# Altium schematic symbol library Connector.SchLib: 380 symbols (part 2 of 2)
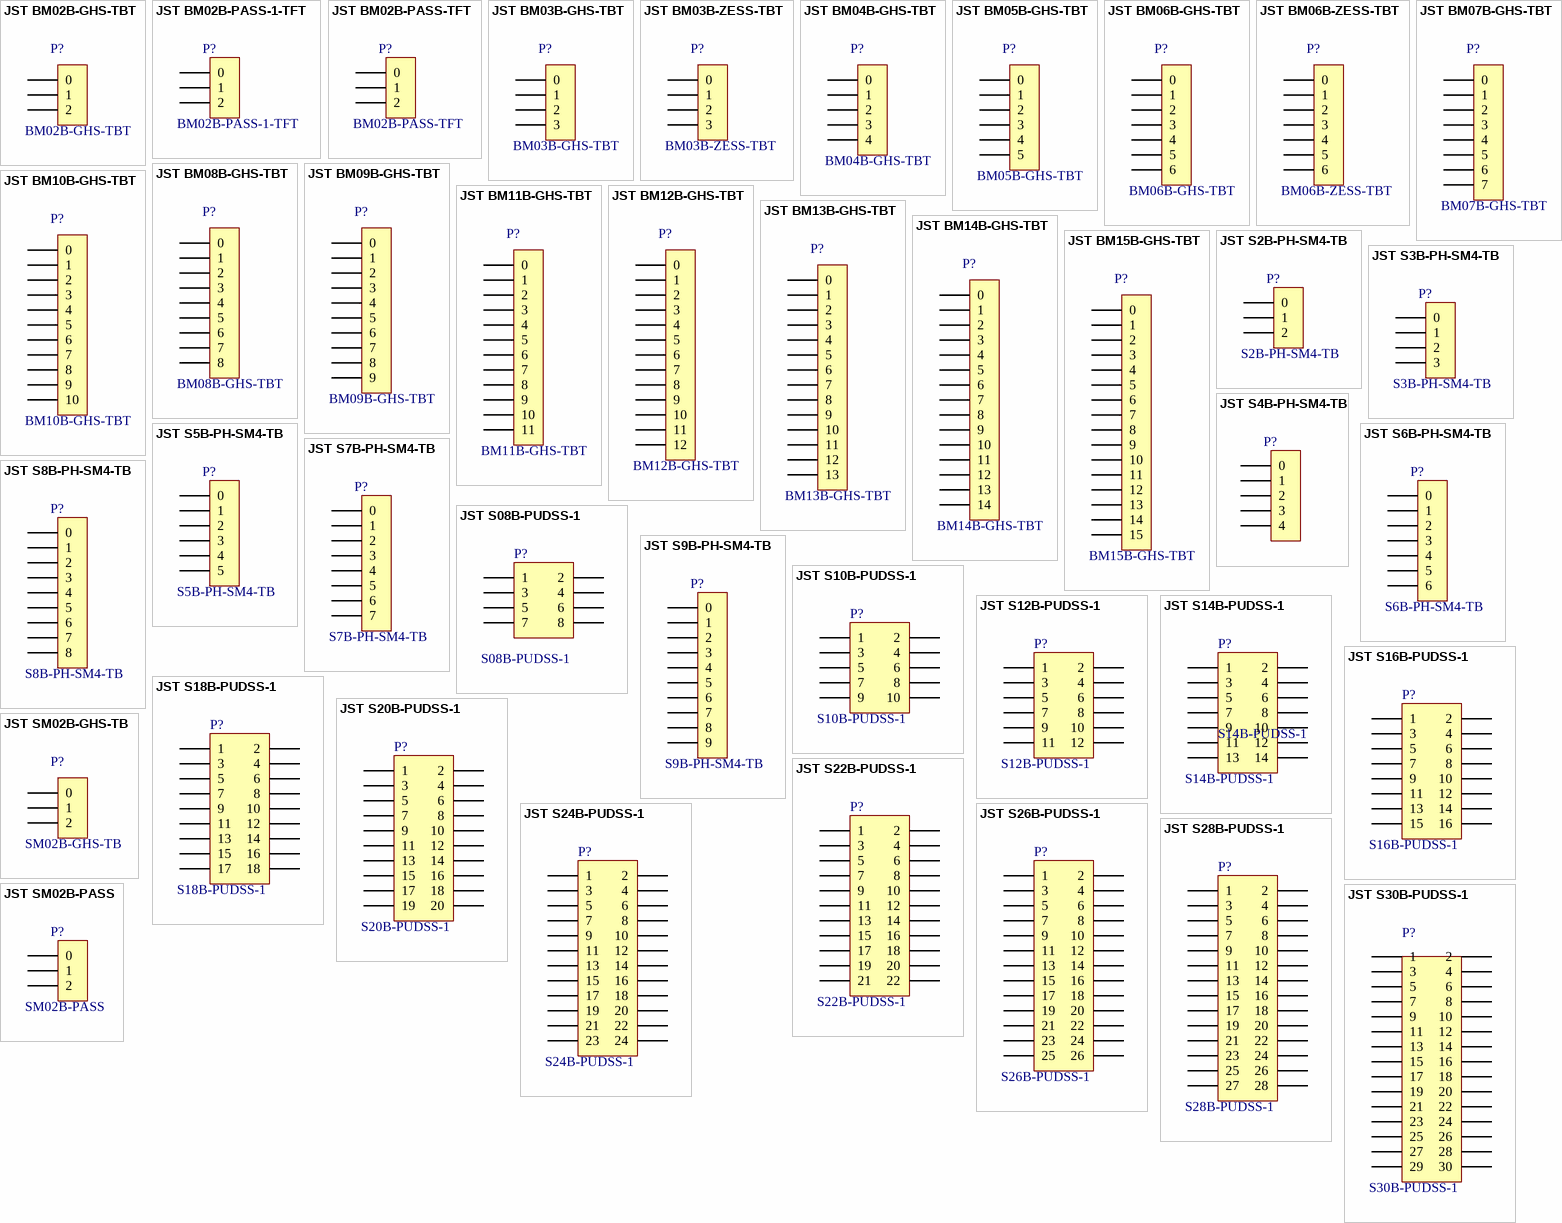
[diagram p10: symbols JST BM02B-GHS-TBT to JST SM02B-PASS]

## JST BM14B-GHS-TBT
designator P?, comment BM14B-GHS-TBT
Manufacture: BM14B-GHS-TBT; Sch Name: BM14B-GHS-TBT
footprint JST BM14B-GHS-TBT
pins: 0 (power), 1 (power), 2 (power), 3 (power), 4 (power), 5 (power), 6 (power), 7 (power), 8 (power), 9 (power), 10 (power), 11 (power), 12 (power), 13 (power), 14 (power)

## JST BM15B-GHS-TBT
designator P?, comment BM15B-GHS-TBT
Manufacture: BM15B-GHS-TBT; Sch Name: BM15B-GHS-TBT
footprint JST BM15B-GHS-TBT
pins: 0 (power), 1 (power), 2 (power), 3 (power), 4 (power), 5 (power), 6 (power), 7 (power), 8 (power), 9 (power), 10 (power), 11 (power), 12 (power), 13 (power), 14 (power), 15 (power)

## JST S2B-PH-SM4-TB
designator P?, comment S2B-PH-SM4-TB
Manufacture: S2B-PH-SM4-TB; Sch Name: S2B-PH-SM4-TB
footprint JST S2B-PH-SM4-TB
pins: 0 (power), 1 (power), 2 (power)

## JST S3B-PH-SM4-TB
designator P?, comment S3B-PH-SM4-TB
Manufacture: S3B-PH-SM4-TB; Sch Name: S3B-PH-SM4-TB
footprint JST S3B-PH-SM4-TB
pins: 0 (power), 1 (power), 2 (power), 3 (power)

## JST S4B-PH-SM4-TB
designator P?, comment S4B-PH-SM4-TB  (value not drawn)
Manufacture: S4B-PH-SM4-TB; Sch Name: S4B-PH-SM4-TB
footprint JST S4B-PH-SM4-TB
pins: 0 (power), 1 (power), 2 (power), 3 (power), 4 (power)

## JST S5B-PH-SM4-TB
designator P?, comment S5B-PH-SM4-TB
Manufacture: S5B-PH-SM4-TB; Sch Name: S5B-PH-SM4-TB
footprint JST S5B-PH-SM4-TB
pins: 0 (power), 1 (power), 2 (power), 3 (power), 4 (power), 5 (power)

## JST S6B-PH-SM4-TB
designator P?, comment S6B-PH-SM4-TB
Manufacture: S6B-PH-SM4-TB; Sch Name: S6B-PH-SM4-TB
footprint JST S6B-PH-SM4-TB
pins: 0 (power), 1 (power), 2 (power), 3 (power), 4 (power), 5 (power), 6 (power)

## JST S7B-PH-SM4-TB
designator P?, comment S7B-PH-SM4-TB
Manufacture: S7B-PH-SM4-TB; Sch Name: S7B-PH-SM4-TB
footprint JST S7B-PH-SM4-TB
pins: 0 (power), 1 (power), 2 (power), 3 (power), 4 (power), 5 (power), 6 (power), 7 (power)

## JST S8B-PH-SM4-TB
designator P?, comment S8B-PH-SM4-TB
Manufacture: S8B-PH-SM4-TB; Sch Name: S8B-PH-SM4-TB
footprint JST S8B-PH-SM4-TB
pins: 0 (power), 1 (power), 2 (power), 3 (power), 4 (power), 5 (power), 6 (power), 7 (power), 8 (power)

## JST S08B-PUDSS-1
designator P?, comment S08B-PUDSS-1
Manufacture: S08B-PUDSS-1; Sch Name: S08B-PUDSS-1
footprint JST S08B-PUDSS-1
signal-integrity model Connector
pins: 1, 2, 3, 4, 5, 6, 7, 8

## JST S9B-PH-SM4-TB
designator P?, comment S9B-PH-SM4-TB
Manufacture: S9B-PH-SM4-TB; Sch Name: S9B-PH-SM4-TB
footprint JST S9B-PH-SM4-TB
pins: 0 (power), 1 (power), 2 (power), 3 (power), 4 (power), 5 (power), 6 (power), 7 (power), 8 (power), 9 (power)

## JST S10B-PUDSS-1
designator P?, comment S10B-PUDSS-1
Manufacture: S10B-PUDSS-1; Sch Name: S10B-PUDSS-1
footprint JST S10B-PUDSS-1
signal-integrity model Connector
pins: 1, 2, 3, 4, 5, 6, 7, 8, 9, 10

## JST S12B-PUDSS-1
designator P?, comment S12B-PUDSS-1
Manufacture: S12B-PUDSS-1; Sch Name: S12B-PUDSS-1
footprint JST S12B-PUDSS-1
signal-integrity model Connector
pins: 1, 2, 3, 4, 5, 6, 7, 8, 9, 10, 11, 12

## JST S14B-PUDSS-1
designator P?, comment S14B-PUDSS-1
Manufacture: S14B-PUDSS-1; Sch Name: S14B-PUDSS-1
footprint JST S14B-PUDSS-1
signal-integrity model Connector
pins: 1, 2, 3, 4, 5, 6, 7, 8, 9, 10, 11, 12, 13, 14

## JST S16B-PUDSS-1
designator P?, comment S16B-PUDSS-1
Manufacture: S16B-PUDSS-1; Sch Name: S16B-PUDSS-1
footprint JST S16B-PUDSS-1
signal-integrity model Connector
pins: 1, 2, 3, 4, 5, 6, 7, 8, 9, 10, 11, 12, 13, 14, 15, 16

## JST S18B-PUDSS-1
designator P?, comment S18B-PUDSS-1
Manufacture: S18B-PUDSS-1; Sch Name: S18B-PUDSS-1
footprint JST S18B-PUDSS-1
signal-integrity model Connector
pins: 1, 2, 3, 4, 5, 6, 7, 8, 9, 10, 11, 12, 13, 14, 15, 16, 17, 18

## JST S20B-PUDSS-1
designator P?, comment S20B-PUDSS-1
Manufacture: S20B-PUDSS-1; Sch Name: S20B-PUDSS-1
footprint JST S20B-PUDSS-1
signal-integrity model Connector
pins: 1, 2, 3, 4, 5, 6, 7, 8, 9, 10, 11, 12, 13, 14, 15, 16, 17, 18, 19, 20

## JST S22B-PUDSS-1
designator P?, comment S22B-PUDSS-1
Manufacture: S22B-PUDSS-1; Sch Name: S22B-PUDSS-1
footprint JST S22B-PUDSS-1
signal-integrity model Connector
pins: 1, 2, 3, 4, 5, 6, 7, 8, 9, 10, 11, 12, 13, 14, 15, 16, 17, 18, 19, 20, 21, 22

## JST S24B-PUDSS-1
designator P?, comment S24B-PUDSS-1
Manufacture: S24B-PUDSS-1; Sch Name: S24B-PUDSS-1
footprint JST S24B-PUDSS-1
signal-integrity model Connector
pins: 1, 2, 3, 4, 5, 6, 7, 8, 9, 10, 11, 12, 13, 14, 15, 16, 17, 18, 19, 20, 21, 22, 23, 24

## JST S26B-PUDSS-1
designator P?, comment S26B-PUDSS-1
Manufacture: S26B-PUDSS-1; Sch Name: S26B-PUDSS-1
footprint JST S26B-PUDSS-1
signal-integrity model Connector
pins: 1, 2, 3, 4, 5, 6, 7, 8, 9, 10, 11, 12, 13, 14, 15, 16, 17, 18, 19, 20, 21, 22, 23, 24, 25, 26

## JST S28B-PUDSS-1
designator P?, comment S28B-PUDSS-1
Manufacture: S28B-PUDSS-1; Sch Name: S28B-PUDSS-1
footprint JST S28B-PUDSS-1
signal-integrity model Connector
pins: 1, 2, 3, 4, 5, 6, 7, 8, 9, 10, 11, 12, 13, 14, 15, 16, 17, 18, 19, 20, 21, 22, 23, 24, 25, 26, 27, 28

## JST S30B-PUDSS-1
designator P?, comment S30B-PUDSS-1
Manufacture: S30B-PUDSS-1; Sch Name: S30B-PUDSS-1
footprint JST S30B-PUDSS-1
signal-integrity model Connector
pins: 1, 2, 3, 4, 5, 6, 7, 8, 9, 10, 11, 12, 13, 14, 15, 16, 17, 18, 19, 20, 21, 22, 23, 24, 25, 26, 27, 28, 29, 30

## JST SM02B-GHS-TB
designator P?, comment SM02B-GHS-TB
Manufacture: SM02B-GHS-TB; Sch Name: SM02B-GHS-TB
footprint JST SM02B-GHS-TB
pins: 0 (power), 1 (power), 2 (power)

## JST SM02B-PASS
designator P?, comment SM02B-PASS
Manufacture: SM02B-PASS; Sch Name: SM02B-PASS
footprint JST SM02B-PASS
pins: 0 (power), 1 (power), 2 (power)

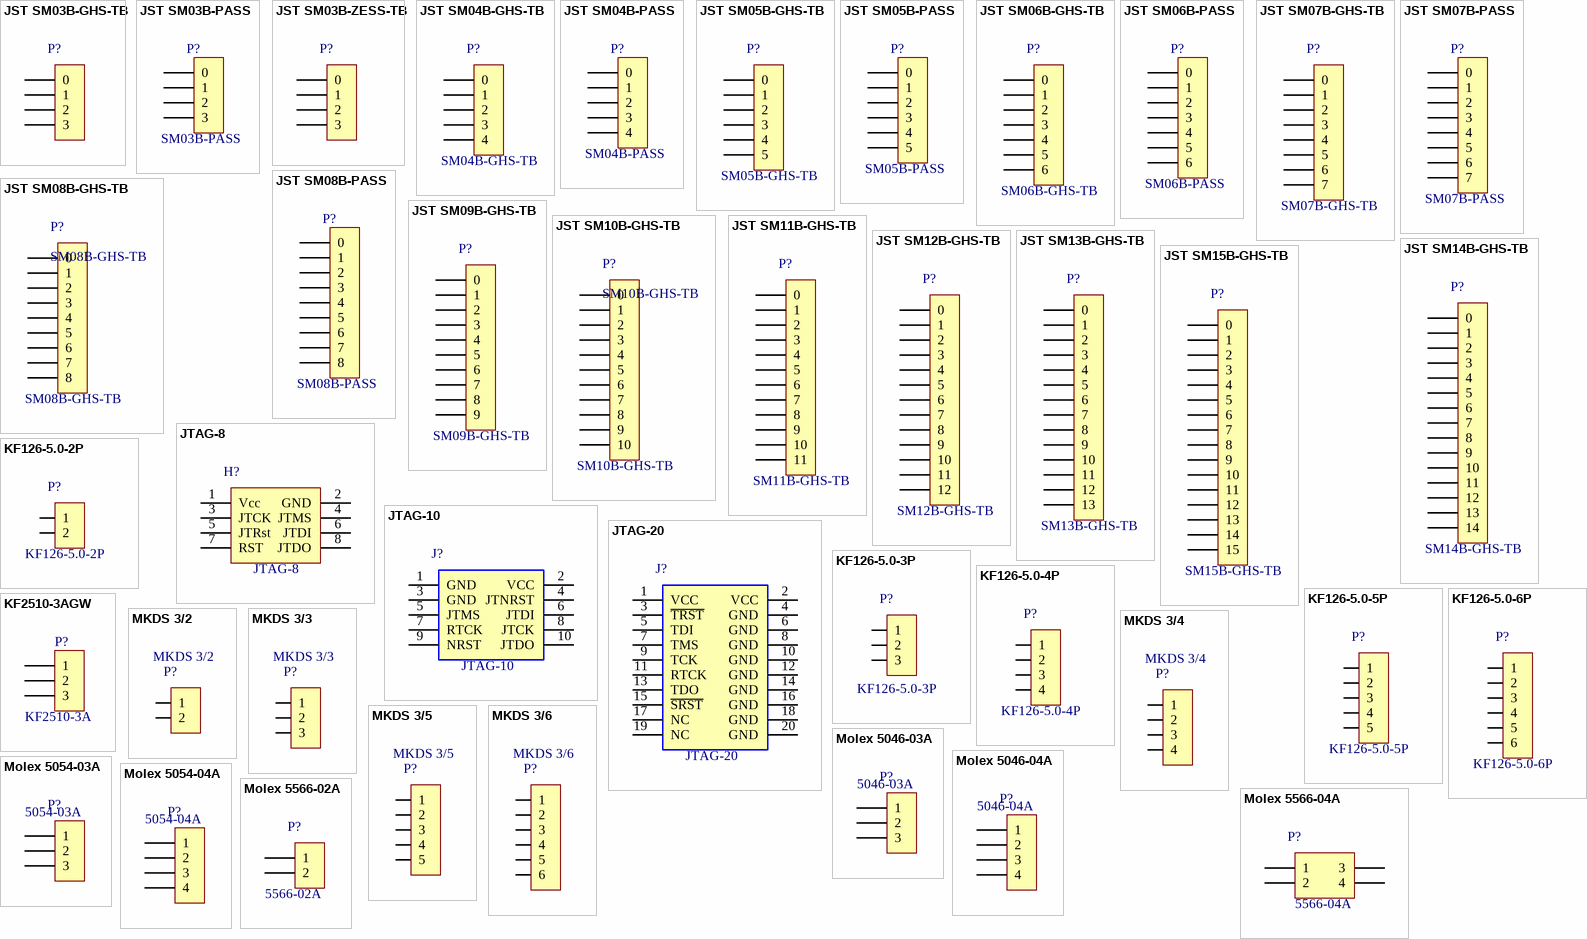
[diagram p5: symbols JST SM03B-GHS-TB to Molex 5566-04A]

## JST SM03B-GHS-TB
designator P?, comment SM03B-GHS-TB  (value not drawn)
Manufacture: SM03B-GHS-TB; Sch Name: SM03B-GHS-TB
footprint JST SM03B-GHS-TB
pins: 0 (power), 1 (power), 2 (power), 3 (power)

## JST SM03B-PASS
designator P?, comment SM03B-PASS
Manufacture: SM03B-PASS; Sch Name: SM03B-PASS
footprint JST SM03B-PASS
pins: 0 (power), 1 (power), 2 (power), 3 (power)

## JST SM03B-ZESS-TB
designator P?, comment SM03B-ZESS-TB  (value not drawn)
Manufacture: SM03B-ZESS-TB; Sch Name: SM03B-ZESS-TB
footprint JST SM03B-ZESS-TB
pins: 0 (power), 1 (power), 2 (power), 3 (power)

## JST SM04B-GHS-TB
designator P?, comment SM04B-GHS-TB
Manufacture: SM04B-GHS-TB; Sch Name: SM04B-GHS-TB
footprint JST SM04B-GHS-TB
pins: 0 (power), 1 (power), 2 (power), 3 (power), 4 (power)

## JST SM04B-PASS
designator P?, comment SM04B-PASS
Manufacture: SM04B-PASS; Sch Name: SM04B-PASS
footprint JST SM04B-PASS
pins: 0 (power), 1 (power), 2 (power), 3 (power), 4 (power)

## JST SM05B-GHS-TB
designator P?, comment SM05B-GHS-TB
Manufacture: SM05B-GHS-TB; Sch Name: SM05B-GHS-TB
footprint JST SM05B-GHS-TB
pins: 0 (power), 1 (power), 2 (power), 3 (power), 4 (power), 5 (power)

## JST SM05B-PASS
designator P?, comment SM05B-PASS
Sch Name: SM05B-PASS; Manufacture: SM05B-PASS
footprint JST SM05B-PASS
pins: 0 (power), 1 (power), 2 (power), 3 (power), 4 (power), 5 (power)

## JST SM06B-GHS-TB
designator P?, comment SM06B-GHS-TB
Manufacture: SM06B-GHS-TB; Sch Name: SM06B-GHS-TB
footprint JST SM06B-GHS-TB
pins: 0 (power), 1 (power), 2 (power), 3 (power), 4 (power), 5 (power), 6 (power)

## JST SM06B-PASS
designator P?, comment SM06B-PASS
Manufacture: SM06B-PASS; Sch Name: SM06B-PASS
footprint JST SM06B-PASS
pins: 0 (power), 1 (power), 2 (power), 3 (power), 4 (power), 5 (power), 6 (power)

## JST SM07B-GHS-TB
designator P?, comment SM07B-GHS-TB
Manufacture: SM07B-GHS-TB; Sch Name: SM07B-GHS-TB
footprint JST SM07B-GHS-TB
pins: 0 (power), 1 (power), 2 (power), 3 (power), 4 (power), 5 (power), 6 (power), 7 (power)

## JST SM07B-PASS
designator P?, comment SM07B-PASS
Manufacture: SM07B-PASS; Sch Name: SM07B-PASS
footprint JST SM07B-PASS
pins: 0 (power), 1 (power), 2 (power), 3 (power), 4 (power), 5 (power), 6 (power), 7 (power)

## JST SM08B-GHS-TB
designator P?, comment SM08B-GHS-TB
Manufacture: SM08B-GHS-TB; Sch Name: SM08B-GHS-TB
footprint JST SM08B-GHS-TB
pins: 0 (power), 1 (power), 2 (power), 3 (power), 4 (power), 5 (power), 6 (power), 7 (power), 8 (power)

## JST SM08B-PASS
designator P?, comment SM08B-PASS
Manufacture: SM08B-PASS; Sch Name: SM08B-PASS
footprint JST SM08B-PASS
pins: 0 (power), 1 (power), 2 (power), 3 (power), 4 (power), 5 (power), 6 (power), 7 (power), 8 (power)

## JST SM09B-GHS-TB
designator P?, comment SM09B-GHS-TB
Manufacture: SM09B-GHS-TB; Sch Name: SM09B-GHS-TB
footprint JST SM09B-GHS-TB
pins: 0 (power), 1 (power), 2 (power), 3 (power), 4 (power), 5 (power), 6 (power), 7 (power), 8 (power), 9 (power)

## JST SM10B-GHS-TB
designator P?, comment SM10B-GHS-TB
Manufacture: SM10B-GHS-TB; Sch Name: SM10B-GHS-TB
footprint JST SM10B-GHS-TB
pins: 0 (power), 1 (power), 2 (power), 3 (power), 4 (power), 5 (power), 6 (power), 7 (power), 8 (power), 9 (power), 10 (power)

## JST SM11B-GHS-TB
designator P?, comment SM11B-GHS-TB
Manufacture: SM11B-GHS-TB; Sch Name: SM11B-GHS-TB
footprint JST SM11B-GHS-TB
pins: 0 (power), 1 (power), 2 (power), 3 (power), 4 (power), 5 (power), 6 (power), 7 (power), 8 (power), 9 (power), 10 (power), 11 (power)

## JST SM12B-GHS-TB
designator P?, comment SM12B-GHS-TB
Manufacture: SM12B-GHS-TB; Sch Name: SM12B-GHS-TB
footprint JST SM12B-GHS-TB
pins: 0 (power), 1 (power), 2 (power), 3 (power), 4 (power), 5 (power), 6 (power), 7 (power), 8 (power), 9 (power), 10 (power), 11 (power), 12 (power)

## JST SM13B-GHS-TB
designator P?, comment SM13B-GHS-TB
Manufacture: SM13B-GHS-TB; Sch Name: SM13B-GHS-TB
footprint JST SM13B-GHS-TB
pins: 0 (power), 1 (power), 2 (power), 3 (power), 4 (power), 5 (power), 6 (power), 7 (power), 8 (power), 9 (power), 10 (power), 11 (power), 12 (power), 13 (power)

## JST SM14B-GHS-TB
designator P?, comment SM14B-GHS-TB
Manufacture: SM14B-GHS-TB; Sch Name: SM14B-GHS-TB
footprint JST SM14B-GHS-TB
pins: 0 (power), 1 (power), 2 (power), 3 (power), 4 (power), 5 (power), 6 (power), 7 (power), 8 (power), 9 (power), 10 (power), 11 (power), 12 (power), 13 (power), 14 (power)

## JST SM15B-GHS-TB
designator P?, comment SM15B-GHS-TB
Manufacture: SM15B-GHS-TB; Sch Name: SM15B-GHS-TB
footprint JST SM15B-GHS-TB
pins: 0 (power), 1 (power), 2 (power), 3 (power), 4 (power), 5 (power), 6 (power), 7 (power), 8 (power), 9 (power), 10 (power), 11 (power), 12 (power), 13 (power), 14 (power), 15 (power)

## JTAG-8
designator H?, comment Sch Name: JTAG-8  (hidden comment: Device Name)
8脚JTAG下载接口; Manufacture: Device Name
footprint DC3-8 (8脚简易牛角座)
pins: 1 Vcc, 2 GND, 3 JTCK, 4 JTMS, 5 JTRst, 6 JTDI, 7 RST, 8 JTDO

## JTAG-10
designator J?, comment Sch Name: JTAG-10  (hidden comment: Device Name)
10脚JTAG下载接口; Manufacture: Device Name
footprint DC3-10 (10脚简易牛角座)
footprint DC3-10 Horizontal (弯头10脚简易牛角座)
pins: 1 GND, 2 VCC, 3 GND, 4 JTNRST, 5 JTMS, 6 JTDI, 7 RTCK, 8 JTCK, 9 NRST (power), 10 JTDO (power)

## JTAG-20
designator J?, comment Sch Name: JTAG-20  (hidden comment: Device Name)
20脚JTAG下载接口; Manufacture: Device Name
footprint DC3-20 (20脚简易牛角座)
footprint DC3-20 Horizontal
pins: 1 VCC, 2 VCC, 3 ~{TRST}, 4 GND, 5 TDI, 6 GND, 7 TMS, 8 GND, 9 TCK, 10 GND, 11 RTCK, 12 GND, 13 TDO, 14 GND, 15 ~{SRST}, 16 GND, 17 NC, 18 GND, 19 NC, 20 GND

## KF126-5.0-2P
designator P?
Manufacture: KF126-5.0-2P; Sch Name: KF126-5.0-2P
footprint KF126-5.0-2P (5.0mm)
pins: 1, 2

## KF126-5.0-3P
designator P?
Manufacture: KF126-5.0-3P; Sch Name: KF126-5.0-3P
footprint KF126-5.0-3P (5.0mm)
pins: 1, 2, 3

## KF126-5.0-4P
designator P?
Manufacture: KF126-5.0-4P; Sch Name: KF126-5.0-4P
footprint KF126-5.0-4P (5.0mm)
pins: 1, 2, 3, 4

## KF126-5.0-5P
designator P?
Manufacture: KF126-5.0-5P; Sch Name: KF126-5.0-5P
footprint KF126-5.0-5P (5.0mm)
pins: 1, 2, 3, 4, 5

## KF126-5.0-6P
designator P?
Manufacture: KF126-5.0-6P; Sch Name: KF126-5.0-6P
footprint KF126-5.0-6P (5.0mm)
pins: 1, 2, 3, 4, 5, 6

## KF2510-3AGW
designator P?, comment KF2510-3A
Manufacture: KF2510-3A; Sch Name: KF2510-3A
footprint KF2510-3A (2.54MM)
pins: 1 (power), 2 (power), 3 (power)

## MKDS 3/2
designator P?
Manufacture: MKDS 3/2; Sch Name: MKDS 3/2
footprint MKDS3/2-5.08-1711725
pins: 1, 2

## MKDS 3/3
designator P?
Manufacture: MKDS 3/3; Sch Name: MKDS 3/3
footprint MKDS3/3-5.08-1711738
pins: 1, 2, 3

## MKDS 3/4
designator P?
Manufacture: MKDS 3/4; Sch Name: MKDS 3/4
footprint MKDS3/4-5.08
pins: 1, 2, 3, 4

## MKDS 3/5
designator P?
Manufacture: MKDS 3/5; Sch Name: MKDS 3/5
footprint MKDS3/5-5.08
pins: 1, 2, 3, 4, 5

## MKDS 3/6
designator P?
Manufacture: MKDS 3/6; Sch Name: MKDS 3/6
footprint MKDS3/6-5.08
pins: 1, 2, 3, 4, 5, 6

## Molex 5046-03A
designator P?, comment 5046-03A
Manufacture: 5046-03A; Sch Name: 5046-03A
footprint Molex 5046-03A (2.54MM)
pins: 1 (power), 2 (power), 3 (power)

## Molex 5046-04A
designator P?, comment 5046-04A
Manufacture: 5046-04A; Sch Name: 5046-04A
footprint Molex 5046-04A (2.54MM)
pins: 1 (power), 2 (power), 3 (power), 4 (power)

## Molex 5054-03A
designator P?, comment 5054-03A
Manufacture: 5054-03A; Sch Name: 5054-03A
footprint Molex 5054-03A (2.54MM)
pins: 1 (power), 2 (power), 3 (power)

## Molex 5054-04A
designator P?, comment 5054-04A
Manufacture: 5054-04A; Sch Name: 5054-04A
footprint Molex 5054-04A (2.54MM)
pins: 1 (power), 2 (power), 3 (power), 4 (power)

## Molex 5566-02A
designator P?, comment 5566-02A
Manufacture: 5566-02A; Sch Name: 5566-02A
footprint Molex 5566-02A
pins: 1 (power), 2 (power)

## Molex 5566-04A
designator P?, comment 5566-04A
Manufacture: 5566-04A; Sch Name: 5566-04A
footprint Molex 5566-04A
pins: 1 (power), 2 (power), 3 (power), 4 (power)

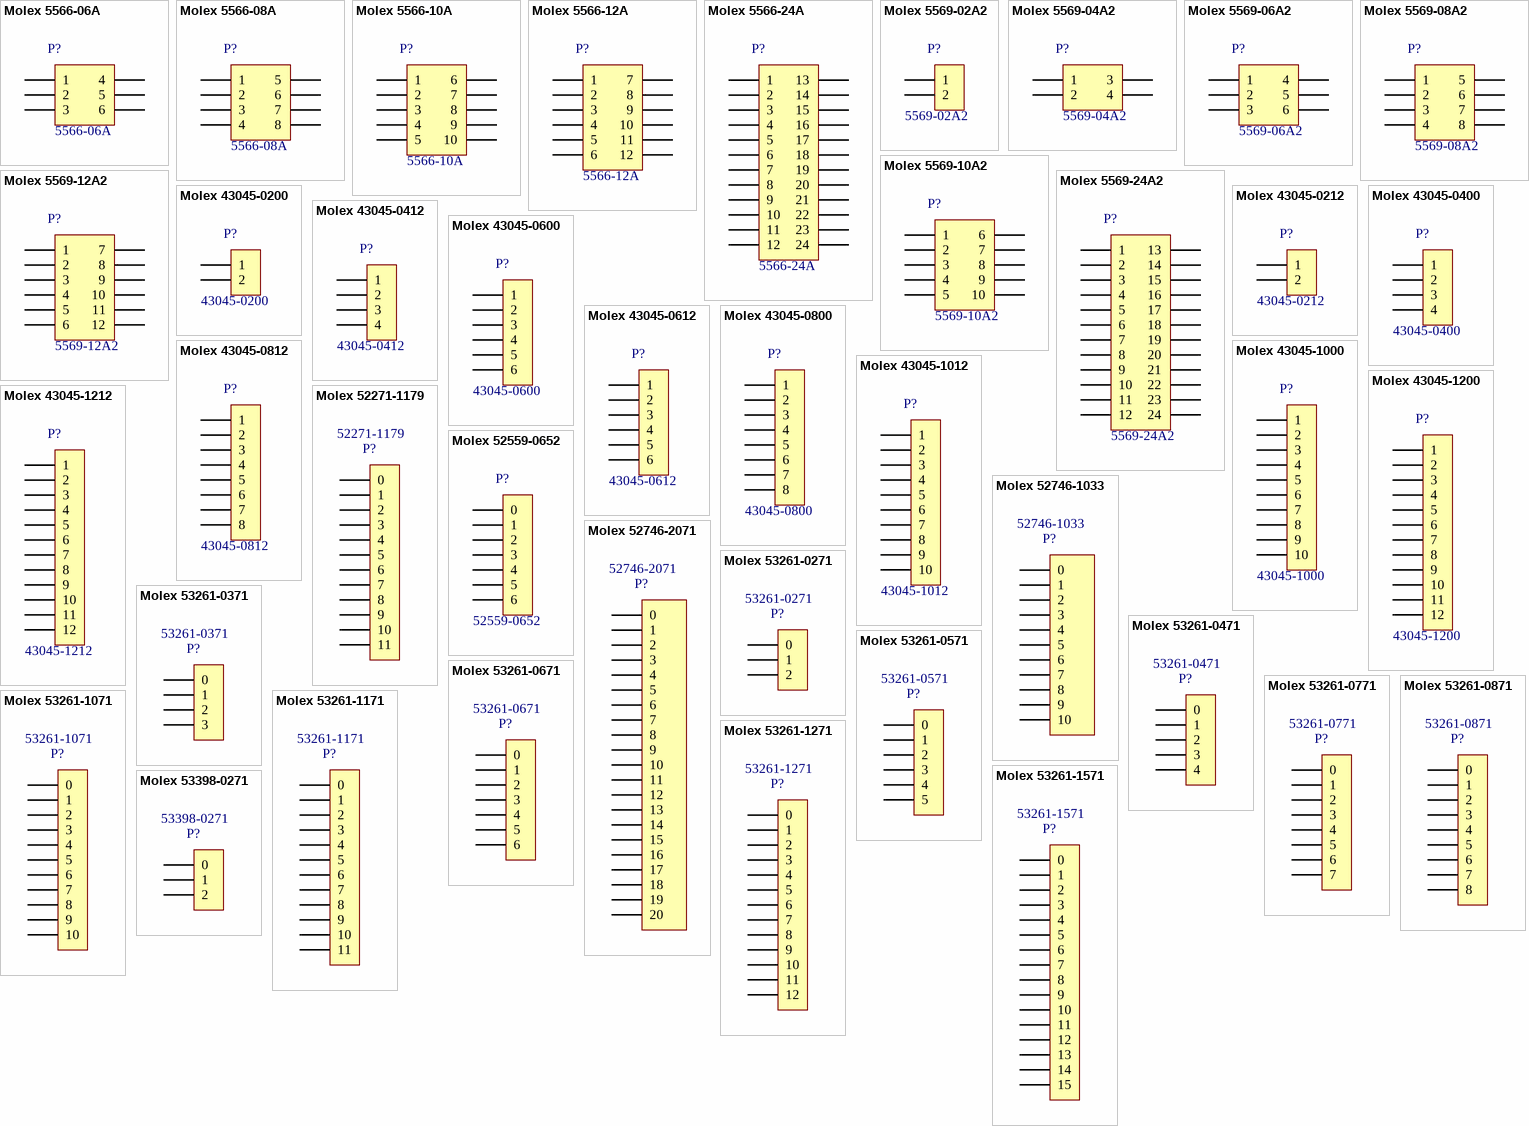
[diagram p6: symbols Molex 5566-06A to Molex 53398-0271]

## Molex 5566-06A
designator P?, comment 5566-06A
Manufacture: 5566-06A; Sch Name: 5566-06A
footprint Molex 5566-06A
pins: 1 (power), 2 (power), 3 (power), 4 (power), 5 (power), 6 (power)

## Molex 5566-08A
designator P?, comment 5566-08A
Manufacture: 5566-08A; Sch Name: 5566-08A
footprint Molex 5566-08A
pins: 1 (power), 2 (power), 3 (power), 4 (power), 5 (power), 6 (power), 7 (power), 8 (power)

## Molex 5566-10A
designator P?, comment 5566-10A
Manufacture: 5566-10A; Sch Name: 5566-10A
footprint Molex 5566-10A
pins: 1 (power), 2 (power), 3 (power), 4 (power), 5 (power), 6 (power), 7 (power), 8 (power), 9 (power), 10 (power)

## Molex 5566-12A
designator P?, comment 5566-12A
Manufacture: 5566-12A; Sch Name: 5566-12A
footprint Molex 5566-12A
pins: 1 (power), 2 (power), 3 (power), 4 (power), 5 (power), 6 (power), 7 (power), 8 (power), 9 (power), 10 (power), 11 (power), 12 (power)

## Molex 5566-24A
designator P?, comment 5566-24A
Manufacture: 5566-24A; Sch Name: 5566-24A
footprint Molex 5566-24A
pins: 1 (power), 2 (power), 3 (power), 4 (power), 5 (power), 6 (power), 7 (power), 8 (power), 9 (power), 10 (power), 11 (power), 12 (power), 13 (power), 14 (power), 15 (power), 16 (power), 17 (power), 18 (power), 19 (power), 20 (power), 21 (power), 22 (power), 23 (power), 24 (power)

## Molex 5569-02A2
designator P?, comment 5569-02A2
Manufacture: 5569-02A2; Sch Name: 5569-02A2
footprint Molex 5569-02A2 (5569/5557)
pins: 1 (power), 2 (power)

## Molex 5569-04A2
designator P?, comment 5569-04A2
Manufacture: 5569-04A2; Sch Name: 5569-04A2
footprint Molex 5569-04A2 (5569/5557)
pins: 1 (power), 2 (power), 3 (power), 4 (power)

## Molex 5569-06A2
designator P?, comment 5569-06A2
Manufacture: 5569-06A2; Sch Name: 5569-06A2
footprint Molex 5569-06A2 (5569/5557)
pins: 1 (power), 2 (power), 3 (power), 4 (power), 5 (power), 6 (power)

## Molex 5569-08A2
designator P?, comment 5569-08A2
Manufacture: 5569-08A2; Sch Name: 5569-08A2
footprint Molex 5569-08A2 (5569/5557)
pins: 1 (power), 2 (power), 3 (power), 4 (power), 5 (power), 6 (power), 7 (power), 8 (power)

## Molex 5569-10A2
designator P?, comment 5569-10A2
Manufacture: 5569-10A2; Sch Name: 5569-10A2
footprint Molex 5569-10A2 (5569/5557)
pins: 1 (power), 2 (power), 3 (power), 4 (power), 5 (power), 6 (power), 7 (power), 8 (power), 9 (power), 10 (power)

## Molex 5569-12A2
designator P?, comment 5569-12A2
Manufacture: 5569-12A2; Sch Name: 5569-12A2
footprint Molex 5569-12A2 (5569/5557)
pins: 1 (power), 2 (power), 3 (power), 4 (power), 5 (power), 6 (power), 7 (power), 8 (power), 9 (power), 10 (power), 11 (power), 12 (power)

## Molex 5569-24A2
designator P?, comment 5569-24A2
Manufacture: 5569-24A2; Sch Name: 5569-24A2
footprint Molex 5569-24A2 (5569/5557)
pins: 1 (power), 2 (power), 3 (power), 4 (power), 5 (power), 6 (power), 7 (power), 8 (power), 9 (power), 10 (power), 11 (power), 12 (power), 13 (power), 14 (power), 15 (power), 16 (power), 17 (power), 18 (power), 19 (power), 20 (power), 21 (power), 22 (power), 23 (power), 24 (power)

## Molex 43045-0200
designator P?, comment 43045-0200
Manufacture: 43045-0200; Sch Name: 43045-0200
footprint Molex 43045-0200
pins: 1 (power), 2 (power)

## Molex 43045-0212
designator P?, comment 43045-0212
Manufacture: 43045-0212; Sch Name: 43045-0212
footprint Molex 43045-0212
pins: 1 (power), 2 (power)

## Molex 43045-0400
designator P?, comment 43045-0400
Manufacture: 43045-0400; Sch Name: 43045-0400
footprint Molex 43045-0400 (43045-0400)
pins: 1 (power), 2 (power), 3 (power), 4 (power)

## Molex 43045-0412
designator P?, comment 43045-0412
Manufacture: 43045-0412; Sch Name: 43045-0412
footprint Molex 43045-0412
pins: 1 (power), 2 (power), 3 (power), 4 (power)

## Molex 43045-0600
designator P?, comment 43045-0600
Manufacture: 43045-0600; Sch Name: 43045-0600
footprint Molex 43045-0600 (43045-0400)
pins: 1 (power), 2 (power), 3 (power), 4 (power), 5 (power), 6 (power)

## Molex 43045-0612
designator P?, comment 43045-0612
Manufacture: 43045-0612; Sch Name: 43045-0612
footprint Molex 43045-0612
pins: 1 (power), 2 (power), 3 (power), 4 (power), 5 (power), 6 (power)

## Molex 43045-0800
designator P?, comment 43045-0800
Manufacture: 43045-0800; Sch Name: 43045-0800
footprint Molex 43045-0800 (43045-0400)
pins: 1 (power), 2 (power), 3 (power), 4 (power), 5 (power), 6 (power), 7 (power), 8 (power)

## Molex 43045-0812
designator P?, comment 43045-0812
Manufacture: 43045-0812; Sch Name: 43045-0812
footprint Molex 43045-0812
pins: 1 (power), 2 (power), 3 (power), 4 (power), 5 (power), 6 (power), 7 (power), 8 (power)

## Molex 43045-1000
designator P?, comment 43045-1000
Manufacture: 43045-1000; Sch Name: 43045-1000
footprint Molex 43045-1000 (43045-0400)
pins: 1 (power), 2 (power), 3 (power), 4 (power), 5 (power), 6 (power), 7 (power), 8 (power), 9 (power), 10 (power)

## Molex 43045-1012
designator P?, comment 43045-1012
Manufacture: 43045-1012; Sch Name: 43045-1012
footprint Molex 43045-1012
pins: 1 (power), 2 (power), 3 (power), 4 (power), 5 (power), 6 (power), 7 (power), 8 (power), 9 (power), 10 (power)

## Molex 43045-1200
designator P?, comment 43045-1200
Manufacture: 43045-1200; Sch Name: 43045-1200
footprint Molex 43045-1200 (43045-0400)
pins: 1 (power), 2 (power), 3 (power), 4 (power), 5 (power), 6 (power), 7 (power), 8 (power), 9 (power), 10 (power), 11 (power), 12 (power)

## Molex 43045-1212
designator P?, comment 43045-1212
Manufacture: 43045-1212; Sch Name: 43045-1212
footprint Molex 43045-1212
pins: 1 (power), 2 (power), 3 (power), 4 (power), 5 (power), 6 (power), 7 (power), 8 (power), 9 (power), 10 (power), 11 (power), 12 (power)

## Molex 52271-1179
designator P?, comment 52271-1179
Manufacture: 52271-1179; Sch Name: 52271-1179
footprint Molex 52271-1179
pins: 0 (power), 1 (power), 2 (power), 3 (power), 4 (power), 5 (power), 6 (power), 7 (power), 8 (power), 9 (power), 10 (power), 11 (power)

## Molex 52559-0652
designator P?, comment 52559-0652
Manufacture: 52559-0652; Sch Name: 52559-0652
footprint MOLEX 52559-0652
pins: 0 (power), 1 (power), 2 (power), 3 (power), 4 (power), 5 (power), 6 (power)

## Molex 52746-1033
designator P?, comment 52746-1033
Manufacture: 52746-1033; Sch Name: 52746-1033
footprint MOLEX 52746-1033
pins: 0, 1, 2, 3, 4, 5, 6, 7, 8, 9, 10

## Molex 52746-2071
designator P?, comment 52746-2071
Manufacture: 52746-2071; Sch Name: 52746-2071
footprint MOLEX 52746-2071
pins: 0, 1, 2, 3, 4, 5, 6, 7, 8, 9, 10, 11, 12, 13, 14, 15, 16, 17, 18, 19, 20

## Molex 53261-0271
designator P?, comment 53261-0271
Manufacture: 53261-0271; Sch Name: 53261-0271
footprint MOLEX 53261-0271
pins: 0 (power), 1 (power), 2 (power)

## Molex 53261-0371
designator P?, comment 53261-0371
Manufacture: 53261-0371; Sch Name: 53261-0371
footprint MOLEX 53261-0371
pins: 0 (power), 1 (power), 2 (power), 3 (power)

## Molex 53261-0471
designator P?, comment 53261-0471
Manufacture: 53261-0471; Sch Name: 53261-0471
footprint MOLEX 53261-0471
pins: 0 (power), 1 (power), 2 (power), 3 (power), 4 (power)

## Molex 53261-0571
designator P?, comment 53261-0571
Manufacture: 53261-0571; Sch Name: 53261-0571
footprint MOLEX 53261-0571
pins: 0 (power), 1 (power), 2 (power), 3 (power), 4 (power), 5 (power)

## Molex 53261-0671
designator P?, comment 53261-0671
Manufacture: 53261-0671; Sch Name: 53261-0671
footprint MOLEX 53261-0671
pins: 0 (power), 1 (power), 2 (power), 3 (power), 4 (power), 5 (power), 6 (power)

## Molex 53261-0771
designator P?, comment 53261-0771
Manufacture: 53261-0771; Sch Name: 53261-0771
footprint MOLEX 53261-0771
pins: 0 (power), 1 (power), 2 (power), 3 (power), 4 (power), 5 (power), 6 (power), 7 (power)

## Molex 53261-0871
designator P?, comment 53261-0871
Manufacture: 53261-0871; Sch Name: 53261-0871
footprint MOLEX 53261-0871
pins: 0 (power), 1 (power), 2 (power), 3 (power), 4 (power), 5 (power), 6 (power), 7 (power), 8 (power)

## Molex 53261-1071
designator P?, comment 53261-1071
Manufacture: 53261-1071; Sch Name: 53261-1071
footprint Molex 53261-1071
pins: 0 (power), 1 (power), 2 (power), 3 (power), 4 (power), 5 (power), 6 (power), 7 (power), 8 (power), 9 (power), 10 (power)

## Molex 53261-1171
designator P?, comment 53261-1171
Manufacture: 53261-1171; Sch Name: 53261-1171
footprint Molex 53261-1171
pins: 0 (power), 1 (power), 2 (power), 3 (power), 4 (power), 5 (power), 6 (power), 7 (power), 8 (power), 9 (power), 10 (power), 11 (power)

## Molex 53261-1271
designator P?, comment 53261-1271
Sch Name: 53261-1271; Manufacture: 53261-1271
footprint Molex 53261-1271
pins: 0 (power), 1 (power), 2 (power), 3 (power), 4 (power), 5 (power), 6 (power), 7 (power), 8 (power), 9 (power), 10 (power), 11 (power), 12 (power)

## Molex 53261-1571
designator P?, comment 53261-1571
Manufacture: 53261-1571; Sch Name: 53261-1571
footprint Molex 53261-1571
pins: 0 (power), 1 (power), 2 (power), 3 (power), 4 (power), 5 (power), 6 (power), 7 (power), 8 (power), 9 (power), 10 (power), 11 (power), 12 (power), 13 (power), 14 (power), 15 (power)

## Molex 53398-0271
designator P?, comment 53398-0271
Manufacture: 53398-0271; Sch Name: 53398-0271
footprint MOLEX 53398-0271
pins: 0 (power), 1 (power), 2 (power)

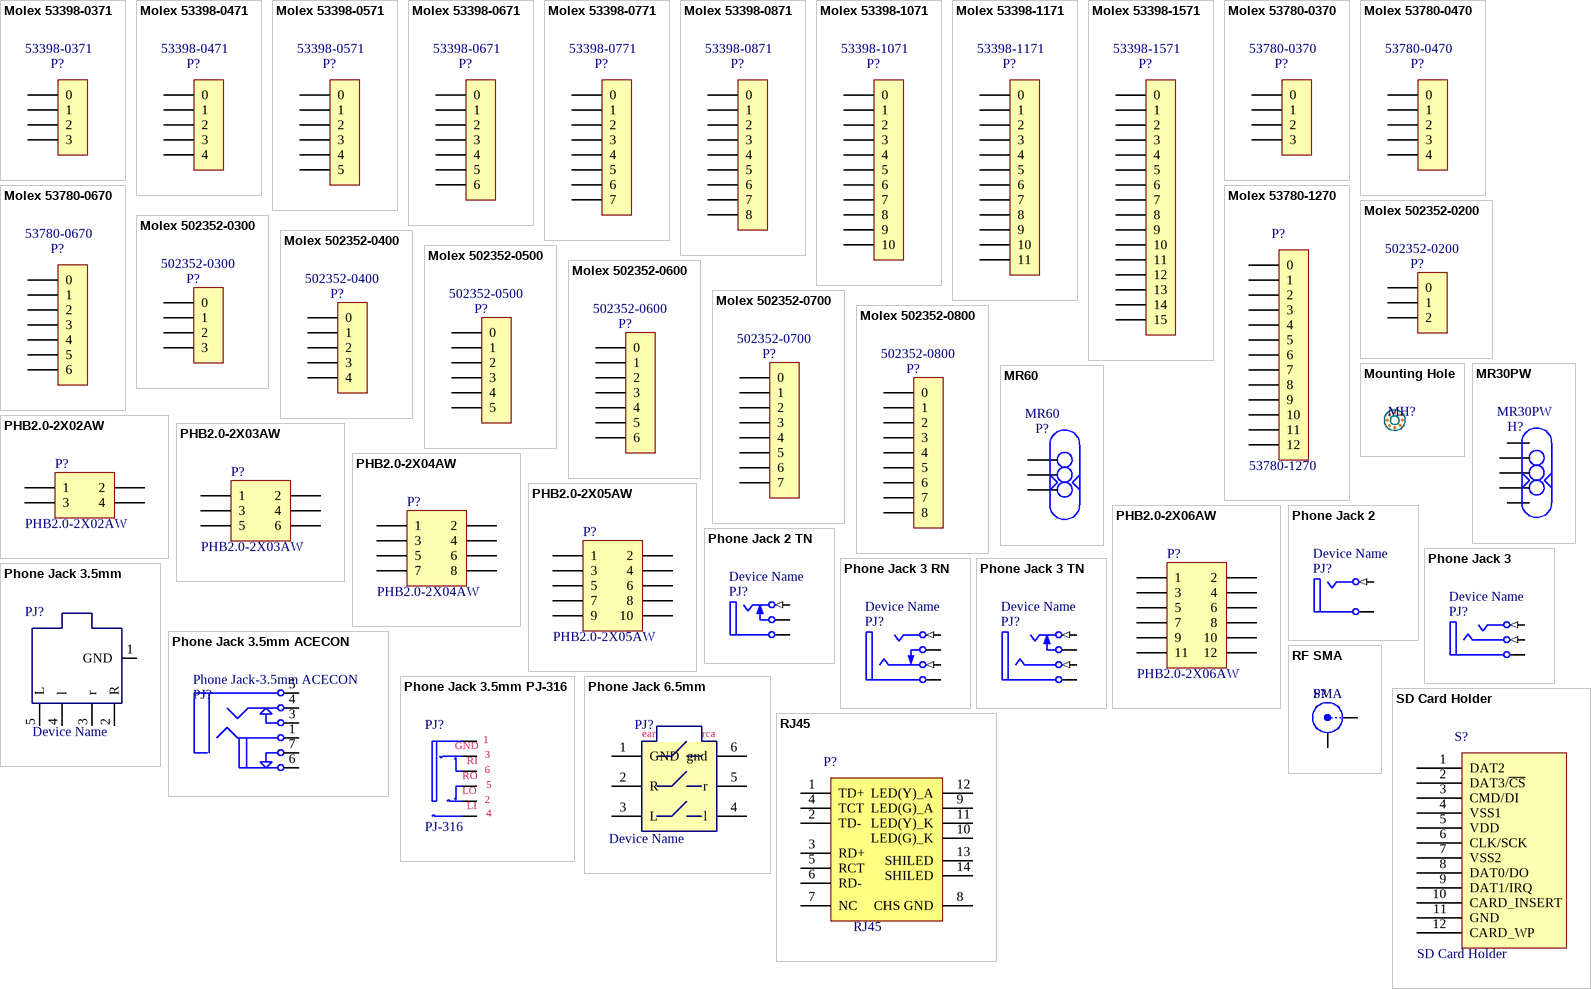
[diagram p7: symbols Molex 53398-0371 to SD Card Holder]

## Molex 53398-0371
designator P?, comment 53398-0371
Manufacture: 53398-0371; Sch Name: 53398-0371
footprint MOLEX 53398-0371
pins: 0 (power), 1 (power), 2 (power), 3 (power)

## Molex 53398-0471
designator P?, comment 53398-0471
Manufacture: 53398-0471; Sch Name: 53398-0471
footprint MOLEX 53398-0471
pins: 0 (power), 1 (power), 2 (power), 3 (power), 4 (power)

## Molex 53398-0571
designator P?, comment 53398-0571
Manufacture: 53398-0571; Sch Name: 53398-0571
footprint MOLEX 53398-0571
pins: 0 (power), 1 (power), 2 (power), 3 (power), 4 (power), 5 (power)

## Molex 53398-0671
designator P?, comment 53398-0671
Manufacture: 53398-0671; Sch Name: 53398-0671
footprint MOLEX 53398-0671
pins: 0 (power), 1 (power), 2 (power), 3 (power), 4 (power), 5 (power), 6 (power)

## Molex 53398-0771
designator P?, comment 53398-0771
Manufacture: 53398-0771; Sch Name: 53398-0771
footprint MOLEX 53398-0771
pins: 0 (power), 1 (power), 2 (power), 3 (power), 4 (power), 5 (power), 6 (power), 7 (power)

## Molex 53398-0871
designator P?, comment 53398-0871
Manufacture: 53398-0871; Sch Name: 53398-0871
footprint MOLEX 53398-0871
pins: 0 (power), 1 (power), 2 (power), 3 (power), 4 (power), 5 (power), 6 (power), 7 (power), 8 (power)

## Molex 53398-1071
designator P?, comment 53398-1071
Manufacture: 53398-1071; Sch Name: 53398-1071
footprint MOLEX 53398-1071
pins: 0 (power), 1 (power), 2 (power), 3 (power), 4 (power), 5 (power), 6 (power), 7 (power), 8 (power), 9 (power), 10 (power)

## Molex 53398-1171
designator P?, comment 53398-1171
Manufacture: 53398-1171; Sch Name: 53398-1171
footprint MOLEX 53398-1171
pins: 0 (power), 1 (power), 2 (power), 3 (power), 4 (power), 5 (power), 6 (power), 7 (power), 8 (power), 9 (power), 10 (power), 11 (power)

## Molex 53398-1571
designator P?, comment 53398-1571
Manufacture: 53398-1571; Sch Name: 53398-1571
footprint MOLEX 53398-1571
pins: 0 (power), 1 (power), 2 (power), 3 (power), 4 (power), 5 (power), 6 (power), 7 (power), 8 (power), 9 (power), 10 (power), 11 (power), 12 (power), 13 (power), 14 (power), 15 (power)

## Molex 53780-0370
designator P?, comment 53780-0370
Manufacture: 53780-0370; Sch Name: 53780-0370
footprint MOLEX 537800370
pins: 0 (power), 1 (power), 2 (power), 3 (power)

## Molex 53780-0470
designator P?, comment 53780-0470
Manufacture: 53780-0470; Sch Name: 53780-0470
footprint MOLEX 537800470
pins: 0 (power), 1 (power), 2 (power), 3 (power), 4 (power)

## Molex 53780-0670
designator P?, comment 53780-0670
Manufacture: 53780-0670; Sch Name: 53780-0670
footprint MOLEX 537800670
pins: 0 (power), 1 (power), 2 (power), 3 (power), 4 (power), 5 (power), 6 (power)

## Molex 53780-1270
designator P?, comment 53780-1270
Manufacture: 53780-1270; Sch Name: 53780-1270
footprint MOLEX 537801270
pins: 0 (power), 1 (power), 2 (power), 3 (power), 4 (power), 5 (power), 6 (power), 7 (power), 8 (power), 9 (power), 10 (power), 11 (power), 12 (power)

## Molex 502352-0200
designator P?, comment 502352-0200
Manufacture: 502352-0200; Sch Name: 502352-0200
footprint Molex 502352-0200
pins: 0 (power), 1 (power), 2 (power)

## Molex 502352-0300
designator P?, comment 502352-0300
Manufacture: 502352-0300; Sch Name: 502352-0300
footprint Molex 502352-0300
pins: 0 (power), 1 (power), 2 (power), 3 (power)

## Molex 502352-0400
designator P?, comment 502352-0400
Manufacture: 502352-0400; Sch Name: 502352-0400
footprint Molex 502352-0400
pins: 0 (power), 1 (power), 2 (power), 3 (power), 4 (power)

## Molex 502352-0500
designator P?, comment 502352-0500
Manufacture: 502352-0500; Sch Name: 502352-0500
footprint Molex 502352-0500
pins: 0 (power), 1 (power), 2 (power), 3 (power), 4 (power), 5 (power)

## Molex 502352-0600
designator P?, comment 502352-0600
Manufacture: 502352-0600; Sch Name: 502352-0600
footprint Molex 502352-0600
pins: 0 (power), 1 (power), 2 (power), 3 (power), 4 (power), 5 (power), 6 (power)

## Molex 502352-0700
designator P?, comment 502352-0700
Manufacture: 502352-0700; Sch Name: 502352-0700
footprint Molex 502352-0700
pins: 0 (power), 1 (power), 2 (power), 3 (power), 4 (power), 5 (power), 6 (power), 7 (power)

## Molex 502352-0800
designator P?, comment 502352-0800
Manufacture: 502352-0800; Sch Name: 502352-0800
footprint Molex 502352-0800
pins: 0 (power), 1 (power), 2 (power), 3 (power), 4 (power), 5 (power), 6 (power), 7 (power), 8 (power)

## Mounting Hole
designator MH?, comment Mounting Hole Size  (value not drawn)
安装孔; Sch Name: Mounting Hole; Manufacture: Mounting Hole Size
footprint Mounting Hole 3.2-7 B (3mm固定孔)
footprint Mounting Hole 3.2-7 A (3mm固定孔)
footprint Mounting Hole 3.2-6 B (3mm固定孔)
footprint Mounting Hole 3.2-6 A (3mm固定孔)
footprint Mounting Hole 2.6-6 A (2.5mm固定孔)
footprint Mounting Hole 2.6-5 A (2.5mm固定孔)
footprint Mounting Hole 2.1-4 A (2.5mm固定孔)

## MR30PW
designator H?, comment MR30PW Male/Female  (value not drawn)
MR30PW; Manufacture: MR30PW Male/Female; Sch Name: MR30PW
footprint XT30PW male 3P (MR30PW)
pins: 0 (power), 0 (power), 1 (power), 2 (power), 3 (power)

## MR60
designator P?, comment Sch Name: MR60  (hidden comment: MR60 Male/Female)
MR30PW; Manufacture: MR60 Male/Female
footprint MR60 MALE
footprint MR60 FEMALE
pins: 1 (power), 2 (power), 3 (power)

## PHB2.0-2X02AW
designator P?
PHB2.0双排弯针带锁扣; Manufacture: PHB2.0-2X02AW; Sch Name: PHB2.0-2X02AW
footprint PHB2.0-2 x 02AW
signal-integrity model Connector
pins: 1, 2, 3, 4

## PHB2.0-2X03AW
designator P?, comment Sch Name: PHB2.0-2X03AW  (hidden comment: Device Name)
PHB2.0双排弯针带锁扣; Manufacture: Device Name
footprint PHB2.0-2 x 03AW
signal-integrity model Connector
pins: 1, 2, 3, 4, 5, 6

## PHB2.0-2X04AW
designator P?, comment Sch Name: PHB2.0-2X04AW  (hidden comment: Device Name)
PHB2.0双排弯针带锁扣; Manufacture: Device Name
footprint PHB2.0-2 x 04AW
signal-integrity model Connector
pins: 1, 2, 3, 4, 5, 6, 7, 8

## PHB2.0-2X05AW
designator P?, comment Sch Name: PHB2.0-2X05AW  (hidden comment: Device Name)
PHB2.0双排弯针带锁扣; Manufacture: Device Name
footprint PHB2.0-2 x 05AW
signal-integrity model Connector
pins: 1, 2, 3, 4, 5, 6, 7, 8, 9, 10

## PHB2.0-2X06AW
designator P?, comment Sch Name: PHB2.0-2X06AW  (hidden comment: Device Name)
PHB2.0双排弯针带锁扣; Manufacture: Device Name
footprint PHB2.0-2 x 06AW
signal-integrity model Connector
pins: 1, 2, 3, 4, 5, 6, 7, 8, 9, 10, 11, 12

## Phone Jack 2
designator PJ?, comment Device Name
Phone Jack; Manufacture: Device Name; Sch Name: Device Name
pins: 1 T (in) "Tip", 5 S (power) "Sleeve (Ground)"

## Phone Jack 2 TN
designator PJ?, comment Device Name
Phone Jack; Manufacture: Device Name; Sch Name: Device Name
pins: 1 T (in) "Tip", 2 TN "Tip Normal (Break Contact)", 5 S (power) "Sleeve (Ground)"

## Phone Jack 3
designator PJ?, comment Device Name
Phone Jack; Manufacture: Device Name; Sch Name: Device Name
pins: 1 T (in) "Tip/Left Channel/(+)", 3 R (in) "Ring/Right Channel/(-)", 5 S (power) "Sleeve (Ground)"

## Phone Jack 3 RN
designator PJ?, comment Device Name
Phone Jack; Manufacture: Device Name; Sch Name: Device Name
pins: 1 T (in) "Tip/Left Channel/(+)", 3 R (in) "Ring/Right Channel/(-)", 4 RN "Ring Normal (Break Contact)", 5 S (power) "Sleeve (Ground)"

## Phone Jack 3 TN
designator PJ?, comment Device Name
Phone Jack; Manufacture: Device Name; Sch Name: Device Name
pins: 1 T (in) "Tip/Left Channel/(+)", 2 TN "Tip Normal (Break Contact)", 3 R (in) "Ring/Right Channel/(-)", 5 S (power) "Sleeve (Ground)"

## Phone Jack 3.5mm
designator PJ?, comment Device Name
3.5mm立体声耳机接口; Manufacture: Device Name; Sch Name: Device Name
footprint Phone Jack 3.5mm_1 (常见3.5mm双通道耳机插座)
footprint Phone Jack 3.5mm_2 (常见3段立体声耳机插座)
footprint Phone Jack 3.5mm_3 (贴片耳机插座)
footprint Phone Jack 3.5mm_4 (3.5mm三段式耳机插座)
pins: 1 GND (power), 2 R (power), 3 r (power), 4 l (power), 5 L (power)

## Phone Jack 3.5mm ACECON
designator PJ?, comment Sch Name: Phone Jack-3.5mm ACECON  (hidden comment: Device Name)
3.5mm立体声耳机接口; Manufacture: Device Name
footprint Phone Jack 3.5mm ACECON
signal-integrity model Connector
pins: 1, 3, 4, 5, 6 CS, 7 CN

## Phone Jack 3.5mm PJ-316
designator PJ?, comment PJ-316
3.5mm立体声耳机接口; Manufacture: PJ-316; Sch Name: PJ-316
footprint Phone Jack 3.5mm PJ-316 (贴片耳机插座)
pins: 1 GND (power), 2 LIN (power), 3 RIN (power), 4 GND (power), 5 LO (power), 6 RO (power)
text: RI; LI

## Phone Jack 6.5mm
designator PJ?, comment Device Name
6.5mm立体声耳机接口; Manufacture: Device Name; Sch Name: Device Name
footprint Phone Jack 6.5mm
pins: 1 GND (power), 2 R (power), 3 L (power), 4 l (power), 5 r (power), 6 gnd (power)
text: ear; rca

## RF SMA
designator P?, comment Sch Name: SMA  (hidden comment: Device Name)
RF Coax Connectors; Manufacture: Device Name
footprint RF SMA Vertical (Footprint not found)
footprint RF SMA 90
footprint RF SMA Horizontal
pins: 1 X, 2 Y

## RJ45
designator P?, comment Device Name  (value not drawn)
RJ45; Manufacture: Device Name; Sch Name: RJ45
footprint RJ45
pins: 1 TD+, 2 TD-, 3 RD+, 4 TCT, 5 RCT, 6 RD-, 7 NC, 8 CHS GND, 9 LED(G)_A, 10 LED(G)_K, 11 LED(Y)_K, 12 LED(Y)_A, 13 SHILED, 14 SHILED

## SD Card Holder
designator S?, comment Device Name  (value not drawn)
SD Card Holder; Manufacture: Device Name; Sch Name: SD Card Holder
footprint SDCARD (大号SDHC卡)
pins: 1 DAT2, 2 DAT3/~{CS}, 3 CMD/DI, 4 VSS1, 5 VDD, 6 CLK/SCK, 7 VSS2, 8 DAT0/DO, 9 DAT1/IRQ, 10 CARD_INSERT, 11 GND, 12 CARD_WP

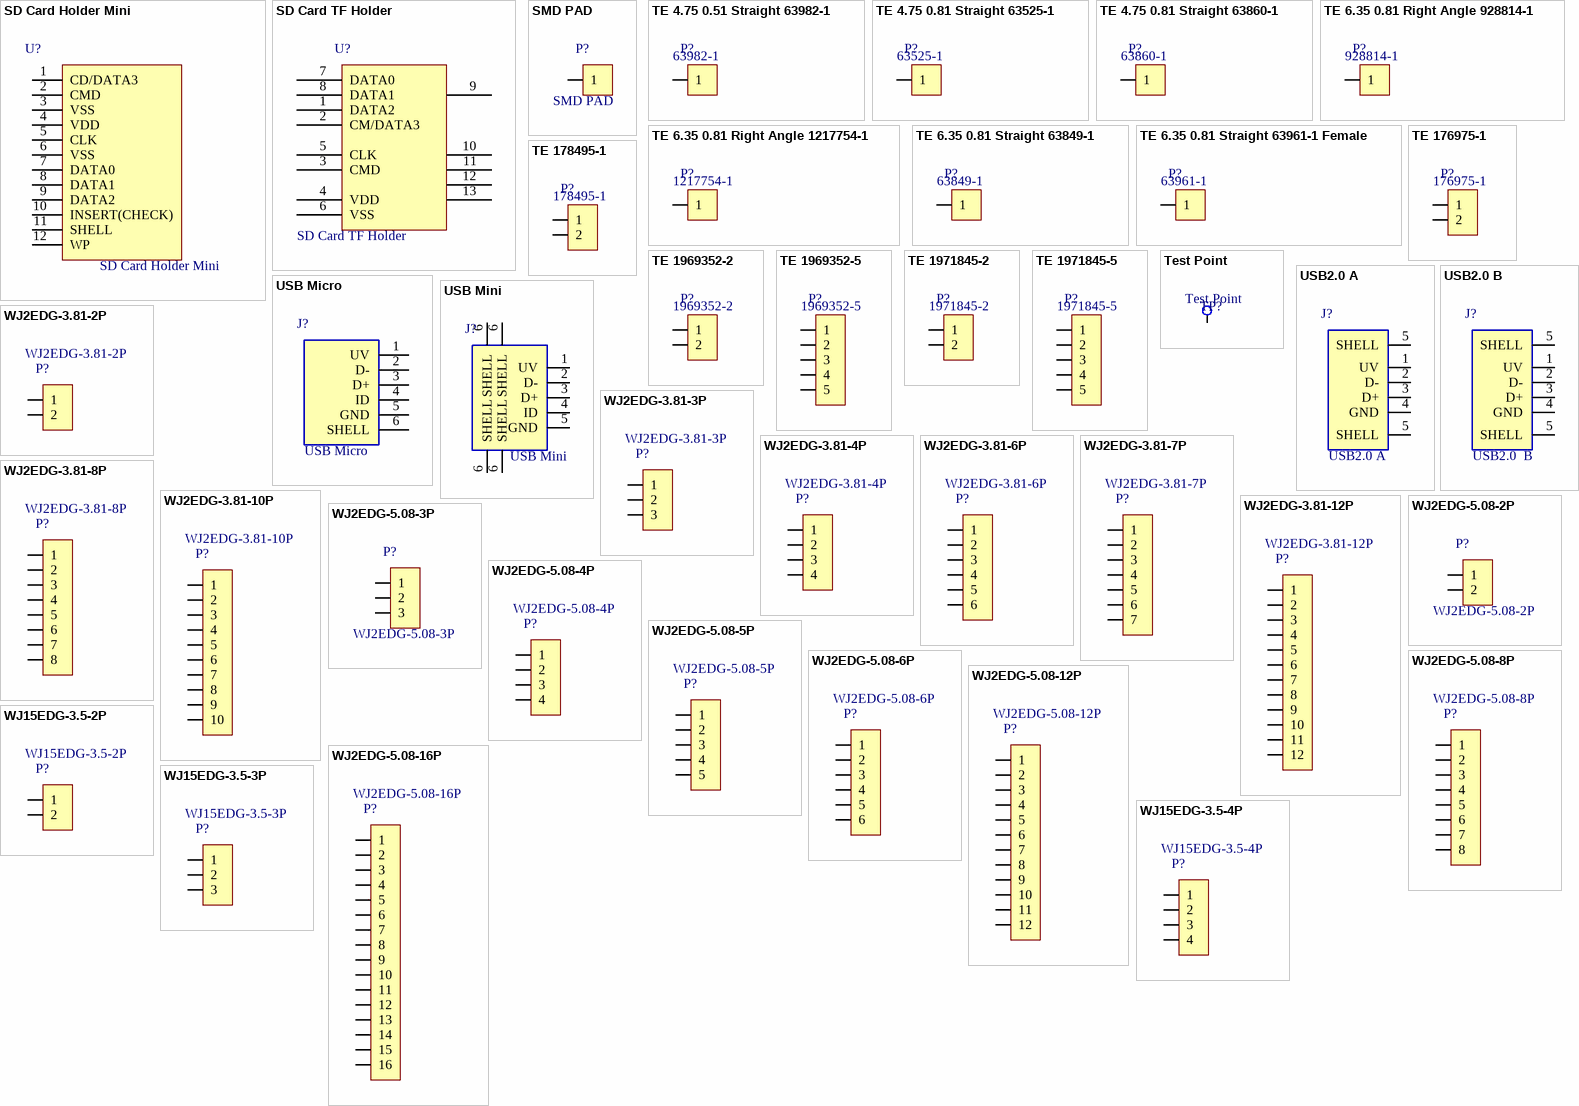
[diagram p8: symbols SD Card Holder Mini to WJ15EDG-3.5-4P]

## SD Card Holder Mini
designator U?, comment Device Name  (value not drawn)
SD Card Holder Mini; Manufacture: Device Name; Sch Name: SD Card Holder Mini
footprint SDCARD(Mini) (小卡套SD卡)
pins: 1 CD/DATA3 (power), 2 CMD (power), 3 VSS (power), 4 VDD (power), 5 CLK (power), 6 VSS (power), 7 DATA0 (power), 8 DATA1 (power), 9 DATA2 (power), 10 INSERT(CHECK) (power), 11 SHELL (power), 12 WP (power)

## SD Card TF Holder
designator U?, comment Device Name  (value not drawn)
SD Card TF Holder; Manufacture: Device Name; Sch Name: SD Card TF Holder
footprint SDCard TF (小号TF卡)
pins: 1 DATA2, 2 CM/DATA3, 3 CMD, 4 VDD, 5 CLK, 6 VSS, 7 DATA0, 8 DATA1, 9, 10, 11, 12, 13

## SMD PAD
designator P?, comment Sch Name: SMD PAD  (hidden comment: Footprint)
镀锡线 焊接焊盘; Manufacture: Footprint
footprint AWG 18 PAD
footprint AWG 10 PAD
pins: 1

## TE 4.75 0.51 Straight 63982-1
designator P?, comment 63982-1
187(4.75mm)插片 垂直; Manufacture: 63982-1; Sch Name: 63982-1
footprint TE 63982-1-14AWG-W6.48
footprint TE 63982-1-14AWG-W8.26
pins: 1

## TE 4.75 0.81 Straight 63525-1
designator P?, comment 63525-1
187(4.75mm)插片 垂直; Manufacture: 63525-1; Sch Name: 63525-1
footprint TE 63525-1-14AWG-W6.48
pins: 1

## TE 4.75 0.81 Straight 63860-1
designator P?, comment 63860-1
187(4.75mm)插片 垂直; Manufacture: 63860-1; Sch Name: 63860-1
footprint TE 63860-1-14AWG-W6.48
footprint TE 63860-1-14AWG-Keystone 1212-ST
pins: 1

## TE 6.35 0.81 Right Angle 928814-1
designator P?, comment 928814-1
250(6.35mm)插片 90°; Manufacture: 928814-1; Sch Name: 928814-1
footprint TE 928814-1-14AWG
footprint TE 928814-1-12AWG
pins: 1

## TE 6.35 0.81 Right Angle 1217754-1
designator P?, comment 1217754-1
250(6.35mm)插片 90°; Manufacture: 1217754-1; Sch Name: 1217754-1
footprint TE 1217754-1-14AWG
footprint TE 1217754-1-12AWG
pins: 1

## TE 6.35 0.81 Straight 63849-1
designator P?, comment 63849-1
250(6.35mm)插片 垂直; Manufacture: 63849-1; Sch Name: 63849-1
footprint TE 63849-1-14AWG
footprint TE 63849-1-12AWG
footprint TE 63849-1-14AWG-Side
pins: 1

## TE 6.35 0.81 Straight 63961-1 Female
designator P?, comment 63961-1
250(6.35mm)插片 垂直; Manufacture: 63961-1; Sch Name: 63961-1
footprint TE 63969-1-14AWG
footprint TE 63969-1-12AWG
pins: 1

## TE 176975-1
designator P?, comment 176975-1
3.96mm插座 垂直; Manufacture: 176975-1; Sch Name: 176975-1
footprint TE 176975-1
pins: 1, 2

## TE 178495-1
designator P?, comment 178495-1
3.96mm插座 90°; Manufacture: 178495-1; Sch Name: 178495-1
footprint TE 178495-1
pins: 1, 2

## TE 1969352-2
designator P?, comment 1969352-2
5.08插片盒 2位 90°; Manufacture: 1969352-2; Sch Name: 1969352-2
footprint TE 1969352-2
pins: 1, 2

## TE 1969352-5
designator P?, comment 1969352-5
5.08插片盒 5位 90°; Manufacture: 1969352-5; Sch Name: 1969352-5
footprint TE 1969352-5
pins: 1, 2, 3, 4, 5

## TE 1971845-2
designator P?, comment 1971845-2
5.08插片盒 2位 垂直; Manufacture: 1971845-2; Sch Name: 1971845-2
footprint TE 1971845-2
pins: 1, 2

## TE 1971845-5
designator P?, comment 1971845-5
5.08插片盒 5位 垂直; Manufacture: 1971845-5; Sch Name: 1971845-5
footprint TE 1971845-5
pins: 1, 2, 3, 4, 5

## Test Point
designator TP?, comment Footprint  (value not drawn)
Test Point; Manufacture: Footprint; Sch Name: Test Point
footprint Test Point TH 1.0-3
footprint Test Point SMD 0.6
footprint Test Point SMD 0.8
footprint Test Point SMD 1.0
pins: 1 (power)

## USB2.0 A
designator J?, comment Device Name  (value not drawn)
USB2.0 A; Manufacture: Device Name; Sch Name: USB2.0 A
footprint USB 2.0 A male (USB公头)
footprint USB 2.0 A female (A型USB接头母头)
pins: 1 UV, 2 D-, 3 D+, 4 GND, 5 SHELL, 5 SHELL

## USB2.0 B
designator J?, comment Sch Name: USB2.0  B  (hidden comment: Device Name)
USB2.0 B; Manufacture: Device Name
footprint USB 2.0 A female (A型USB接头母头)
footprint USB B 670688000 (B型USB母头)
pins: 1 UV, 2 D-, 3 D+, 4 GND, 5 SHELL, 5 SHELL

## USB Micro
designator J?, comment Device Name  (value not drawn)
USB Micro; Manufacture: Device Name; Sch Name: USB Micro
footprint USB Micro
footprint USB Micro Vertical
pins: 1 UV, 2 D-, 3 D+, 4 ID, 5 GND, 6 SHELL

## USB Mini
designator J?, comment Device Name  (value not drawn)
USB Mini; Manufacture: Device Name; Sch Name: USB Mini
footprint USB Mini (B型迷你USB接头)
pins: 1 UV, 2 D-, 3 D+, 4 ID, 5 GND, 6 SHELL, 6 SHELL, 6 SHELL, 6 SHELL

## WJ2EDG-3.81-2P
designator P?
Manufacture: WJ2EDG-3.81-2P; Sch Name: WJ2EDG-3.81-2P
footprint WJ2EDG-3.81-2P
pins: 1, 2

## WJ2EDG-3.81-3P
designator P?
Manufacture: WJ2EDG-3.81-3P; Sch Name: WJ2EDG-3.81-3P
footprint WJ2EDG-3.81-3P
pins: 1, 2, 3

## WJ2EDG-3.81-4P
designator P?
Manufacture: WJ2EDG-3.81-4P; Sch Name: WJ2EDG-3.81-4P
footprint WJ2EDG-3.81-4P
pins: 1, 2, 3, 4

## WJ2EDG-3.81-6P
designator P?
Manufacture: WJ2EDG-3.81-6P; Sch Name: WJ2EDG-3.81-6P
footprint WJ2EDG-3.81-6P
pins: 1, 2, 3, 4, 5, 6

## WJ2EDG-3.81-7P
designator P?
Manufacture: WJ2EDG-3.81-7P; Sch Name: WJ2EDG-3.81-7P
footprint WJ2EDG-3.81-7P
pins: 1, 2, 3, 4, 5, 6, 7

## WJ2EDG-3.81-8P
designator P?
Manufacture: WJ2EDG-3.81-8P; Sch Name: WJ2EDG-3.81-8P
footprint WJ2EDG-3.81-8P
pins: 1, 2, 3, 4, 5, 6, 7, 8

## WJ2EDG-3.81-10P
designator P?
Manufacture: WJ2EDG-3.81-10P; Sch Name: WJ2EDG-3.81-10P
footprint WJ2EDG-3.81-10P
pins: 1, 2, 3, 4, 5, 6, 7, 8, 9, 10

## WJ2EDG-3.81-12P
designator P?
Manufacture: WJ2EDG-3.81-12P; Sch Name: WJ2EDG-3.81-12P
footprint WJ2EDG-3.81-12P
pins: 1, 2, 3, 4, 5, 6, 7, 8, 9, 10, 11, 12

## WJ2EDG-5.08-2P
designator P?
Manufacture: WJ2EDG-5.08-2P; Sch Name: WJ2EDG-5.08-2P
footprint WJ2EDG-5.08-2P(带耳)
footprint WJ2EDG-5.08-2P(带耳垂直)
footprint WJ2EDG-5.08-2P
pins: 1, 2

## WJ2EDG-5.08-3P
designator P?
Manufacture: WJ2EDG-5.08-3P; Sch Name: WJ2EDG-5.08-3P
footprint WJ2EDG-5.08-3P(带耳)
footprint WJ2EDG-5.08-3P
pins: 1, 2, 3

## WJ2EDG-5.08-4P
designator P?
Manufacture: WJ2EDG-5.08-4P; Sch Name: WJ2EDG-5.08-4P
footprint WJ2EDG-5.08-4P(带耳)
footprint WJ2EDG-5.08-4P
pins: 1, 2, 3, 4

## WJ2EDG-5.08-5P
designator P?
Manufacture: WJ2EDG-5.08-5P; Sch Name: WJ2EDG-5.08-5P
footprint WJ2EDG-5.08-5P(带耳)
footprint WJ2EDG-5.08-5P
pins: 1, 2, 3, 4, 5

## WJ2EDG-5.08-6P
designator P?
Manufacture: WJ2EDG-5.08-6P; Sch Name: WJ2EDG-5.08-6P
footprint WJ2EDG-5.08-6P(带耳)
footprint WJ2EDG-5.08-6P
pins: 1, 2, 3, 4, 5, 6

## WJ2EDG-5.08-8P
designator P?
Manufacture: WJ2EDG-5.08-8P; Sch Name: WJ2EDG-5.08-8P
footprint WJ2EDG-5.08-8P
pins: 1, 2, 3, 4, 5, 6, 7, 8

## WJ2EDG-5.08-12P
designator P?
Manufacture: WJ2EDG-5.08-12P; Sch Name: WJ2EDG-5.08-12P
footprint WJ2EDG-5.08-12P
pins: 1, 2, 3, 4, 5, 6, 7, 8, 9, 10, 11, 12

## WJ2EDG-5.08-16P
designator P?
Manufacture: WJ2EDG-5.08-16P; Sch Name: WJ2EDG-5.08-16P
footprint WJ2EDG-5.08-16P
pins: 1, 2, 3, 4, 5, 6, 7, 8, 9, 10, 11, 12, 13, 14, 15, 16

## WJ15EDG-3.5-2P
designator P?
Manufacture: WJ15EDG-3.5-2P; Sch Name: WJ15EDG-3.5-2P
footprint WJ15EDG-3.5-2P(带耳)
footprint WJ15EDG-3.5-2P(带耳垂直)
pins: 1, 2

## WJ15EDG-3.5-3P
designator P?
Manufacture: WJ15EDG-3.5-3P; Sch Name: WJ15EDG-3.5-3P
footprint WJ15EDG-3.5-3P(带耳)
pins: 1, 2, 3

## WJ15EDG-3.5-4P
designator P?
Manufacture: WJ15EDG-3.5-4P; Sch Name: WJ15EDG-3.5-4P
footprint WJ15EDG-3.5-4P(带耳)
pins: 1, 2, 3, 4

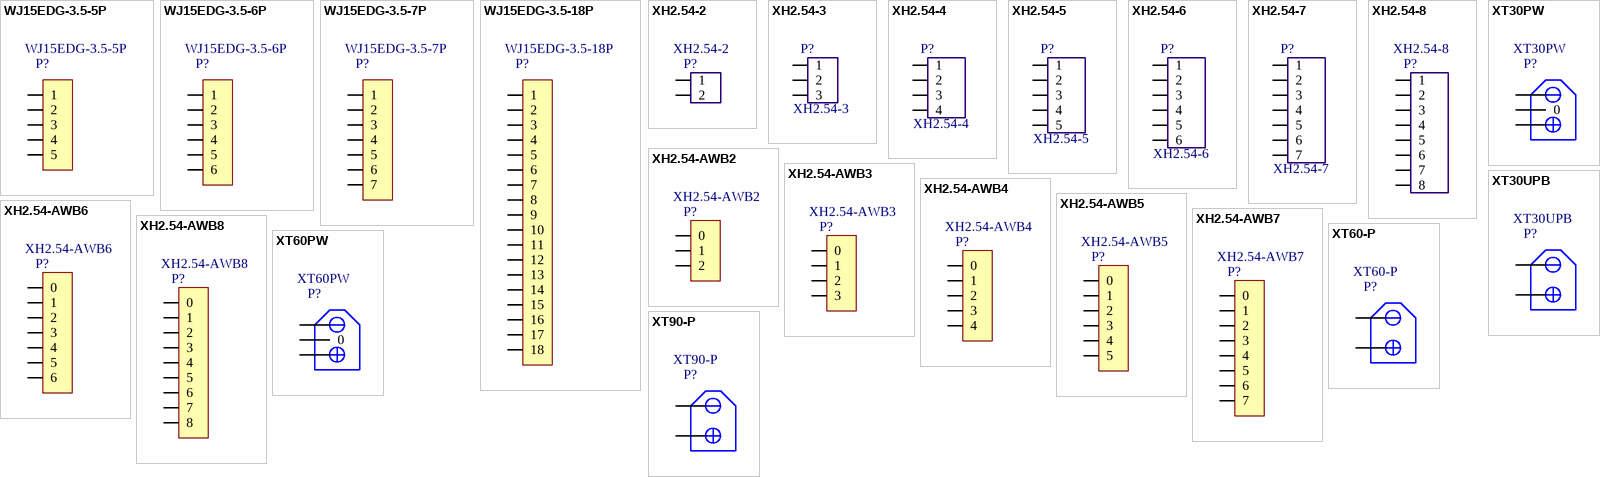
[diagram p9: symbols WJ15EDG-3.5-5P to XT90-P]

## WJ15EDG-3.5-5P
designator P?
Manufacture: WJ15EDG-3.5-5P; Sch Name: WJ15EDG-3.5-5P
footprint WJ15EDG-3.5-5P(带耳)
pins: 1, 2, 3, 4, 5

## WJ15EDG-3.5-6P
designator P?
Manufacture: WJ15EDG-3.5-6P; Sch Name: WJ15EDG-3.5-6P
footprint WJ15EDG-3.5-6P(带耳)
pins: 1, 2, 3, 4, 5, 6

## WJ15EDG-3.5-7P
designator P?
Manufacture: WJ15EDG-3.5-7P; Sch Name: WJ15EDG-3.5-7P
footprint WJ15EDG-3.5-7P(带耳)
pins: 1, 2, 3, 4, 5, 6, 7

## WJ15EDG-3.5-18P
designator P?
Manufacture: WJ15EDG-3.5-18P; Sch Name: WJ15EDG-3.5-18P
footprint WJ15EDG-3.5-18P(带耳)
pins: 1, 2, 3, 4, 5, 6, 7, 8, 9, 10, 11, 12, 13, 14, 15, 16, 17, 18

## XH2.54-2
designator P?
Manufacture: XH2.54-2; Sch Name: XH2.54-2
footprint XH2.54_2
footprint XH2.54_2AW
pins: 1, 2

## XH2.54-3
designator P?
Manufacture: XH2.54-3; Sch Name: XH2.54-3
footprint XH2.54_3
footprint XH2.54_3AW
pins: 1, 2, 3

## XH2.54-4
designator P?
Manufacture: XH2.54-4; Sch Name: XH2.54-4
footprint XH2.54_4
footprint XH2.54_4AW
pins: 1, 2, 3, 4

## XH2.54-5
designator P?
Manufacture: XH2.54-5; Sch Name: XH2.54-5
footprint XH2.54_5
footprint XH2.54_5AW
pins: 1, 2, 3, 4, 5

## XH2.54-6
designator P?
Manufacture: XH2.54-6; Sch Name: XH2.54-6
footprint XH2.54_6
footprint XH2.54_6AW
pins: 1, 2, 3, 4, 5, 6

## XH2.54-7
designator P?
Manufacture: XH2.54-7; Sch Name: XH2.54-7
footprint XH2.54_7
footprint XH2.54_7AW
pins: 1, 2, 3, 4, 5, 6, 7

## XH2.54-8
designator P?
Manufacture: XH2.54-8; Sch Name: XH2.54-8
footprint XH2.54_8
pins: 1, 2, 3, 4, 5, 6, 7, 8

## XH2.54-AWB2
designator P?
Manufacture: XH2.54-AWB2; Sch Name: XH2.54-AWB2
footprint XH2.54_2AWB
pins: 0, 1, 2

## XH2.54-AWB3
designator P?
Manufacture: XH2.54-AWB3; Sch Name: XH2.54-AWB3
footprint XH2.54_3AWB
pins: 0, 1, 2, 3

## XH2.54-AWB4
designator P?
Manufacture: XH2.54-AWB4; Sch Name: XH2.54-AWB4
footprint XH2.54_4AWB
pins: 0, 1, 2, 3, 4

## XH2.54-AWB5
designator P?
Manufacture: XH2.54-AWB5; Sch Name: XH2.54-AWB5
footprint XH2.54_5AWB
pins: 0, 1, 2, 3, 4, 5

## XH2.54-AWB6
designator P?
Manufacture: XH2.54-AWB6; Sch Name: XH2.54-AWB6
footprint XH2.54_6AWB
pins: 0, 1, 2, 3, 4, 5, 6

## XH2.54-AWB7
designator P?
Manufacture: XH2.54-AWB7; Sch Name: XH2.54-AWB7
footprint XH2.54_7AWB
pins: 0, 1, 2, 3, 4, 5, 6, 7

## XH2.54-AWB8
designator P?
Manufacture: XH2.54-AWB8; Sch Name: XH2.54-AWB8
footprint XH2.54_8AWB
pins: 0, 1, 2, 3, 4, 5, 6, 7, 8

## XT30PW
designator P?, comment XT30PW Male/Female  (value not drawn)
XT30PW; Manufacture: XT30PW Male/Female; Sch Name: XT30PW
footprint XT30PW MALE (XT30PW卧式公头)
footprint XT30PW FEMALE (XT30PW卧式母头)
pins: 0 (power), 1 + (power), 2 - (power)

## XT30UPB
designator P?
Manufacture: XT30UPB; Sch Name: XT30UPB
footprint XT30UPB MALE
pins: 1 + (power), 2 - (power)

## XT60-P
designator P?
XT Connector; Manufacture: XT60-P; Sch Name: XT60-P
footprint XT60-P
pins: 1 + (power), 2 - (power)

## XT60PW
designator P?, comment XT60PW Male/Female  (value not drawn)
XT60PW; Manufacture: XT60PW Male/Female; Sch Name: XT60PW
footprint XT60PW female
footprint XT60PW male
pins: 0 (power), 1 + (power), 2 - (power)

## XT90-P
designator P?
Manufacture: XT90-P; Sch Name: XT90-P
footprint XT90
pins: 1 + (power), 2 - (power)